# Altium footprint library Divers.PcbLib: 23 footprints (part 2 of 2)
Each footprint in its own frame and in the unit in brackets; x right, y up, seen from the top. Pads: shape width x height; smd on the part's side, far side on the other; paste and mask are expansions set on the pad; w line width, h text height; cw(c..) or ccw(c..) is an arc to the next point about the centre after c.
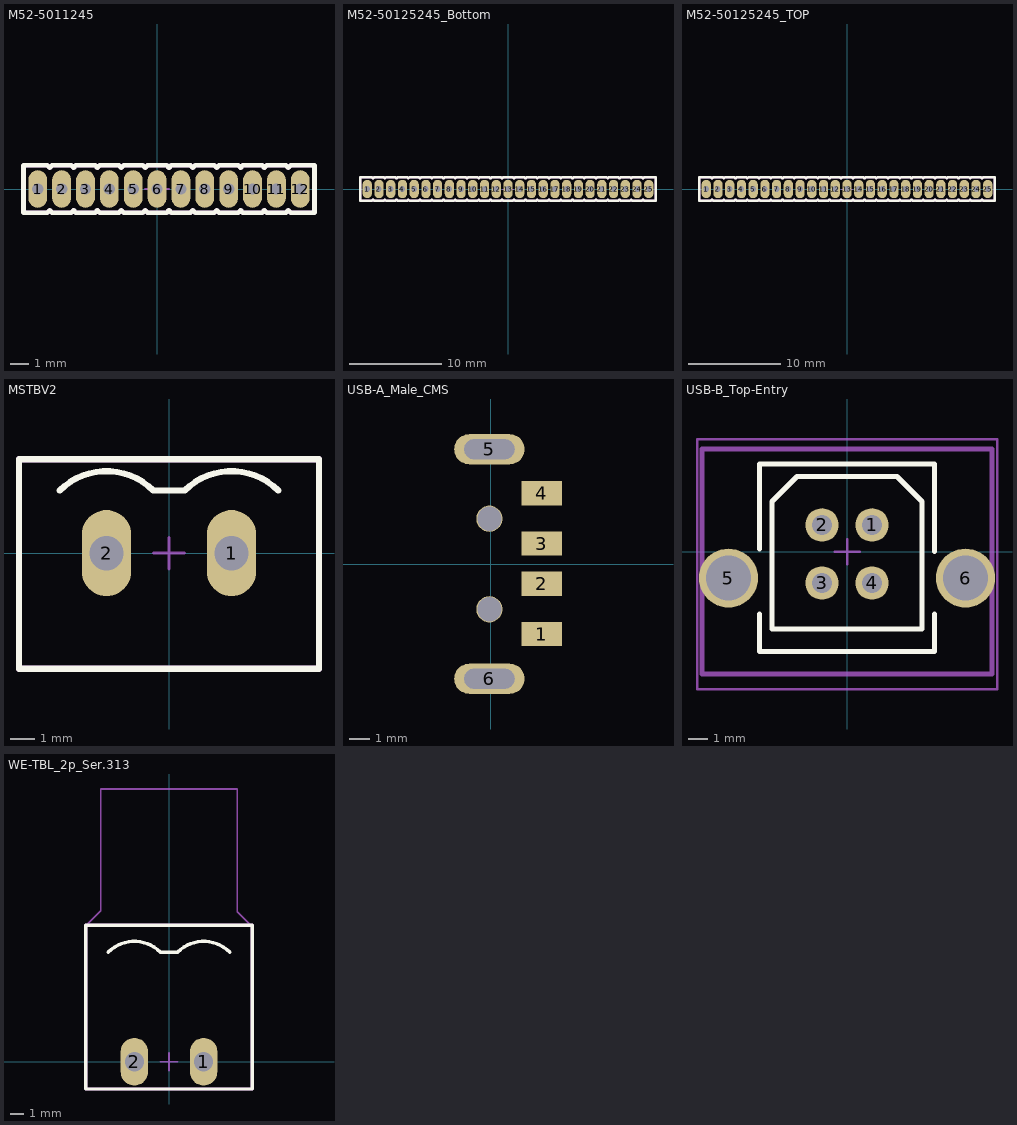
[diagram p1: the footprints below, top view; thin cyan lines are the x and y axes]

## M52-5011245 [mm]
pads (12):
  oval 1x2 hole 0.6: 1(-6.35,0) 2(-5.08,0) 3(-3.81,0) 4(-2.54,0) 5(-1.27,0) 6(0,0) 7(1.27,0) 8(2.54,0) 9(3.81,0) 10(5.08,0) 11(6.35,0) 12(7.62,0)
Top Overlay:
  lines w0.254: -7.112,-1.27 -5.842,-1.27 -5.715,-1.143 -5.588,-1.27 -4.572,-1.27 -4.445,-1.143 -4.318,-1.27 -3.302,-1.27 -3.175,-1.143 -3.048,-1.27 -2.032,-1.27 -1.905,-1.143 -1.778,-1.27 -0.762,-1.27 -0.635,-1.143 -0.508,-1.27 0.508,-1.27 0.635,-1.143 0.762,-1.27 1.778,-1.27 1.905,-1.143 2.032,-1.27 3.048,-1.27 3.175,-1.143 3.302,-1.27 4.318,-1.27 4.445,-1.143 4.572,-1.27 5.588,-1.27 5.715,-1.143 5.842,-1.27 6.858,-1.27 6.985,-1.143 7.112,-1.27 8.382,-1.27 8.382,1.27 7.112,1.27 6.985,1.143 6.858,1.27 5.842,1.27 5.715,1.143 5.588,1.27 4.572,1.27 4.445,1.143 4.318,1.27 3.302,1.27 3.175,1.143 3.048,1.27 2.032,1.27 1.905,1.143 1.778,1.27 0.762,1.27 0.635,1.143 0.508,1.27 -0.508,1.27 -0.635,1.143 -0.762,1.27 -1.778,1.27 -1.905,1.143 -2.032,1.27 -3.048,1.27 -3.175,1.143 -3.302,1.27 -4.318,1.27 -4.445,1.143 -4.572,1.27 -5.588,1.27 -5.715,1.143 -5.842,1.27 -7.112,1.27 -7.112,-1.27
Mechanical 13:
  lines w0.254: 7.112,1.27 8.255,1.27 ; 7.112,1.27 6.985,1.143 6.858,1.27 5.842,1.27 5.715,1.143 5.588,1.27 4.572,1.27 4.445,1.143 4.318,1.27 3.302,1.27 3.175,1.143 3.048,1.27 2.032,1.27 1.905,1.143 1.778,1.27 0.762,1.27 0.635,1.143 0.508,1.27 -0.508,1.27 -0.635,1.143 -0.762,1.27 -1.778,1.27 -1.905,1.143 -2.032,1.27 -3.048,1.27 -3.175,1.143 -3.302,1.27 -4.318,1.27 -4.445,1.143 -4.572,1.27 -5.588,1.27 -5.715,1.143 -5.842,1.27 -6.985,1.27 -7.112,1.143 -7.112,-1.143 -6.985,-1.27 -5.842,-1.27 -5.715,-1.143 -5.588,-1.27 -4.572,-1.27 -4.445,-1.143 -4.318,-1.27 -3.302,-1.27 -3.175,-1.143 -3.048,-1.27 -2.032,-1.27 -1.905,-1.143 -1.778,-1.27 -0.762,-1.27 -0.635,-1.143 -0.508,-1.27 0.508,-1.27 0.635,-1.143 0.762,-1.27 1.778,-1.27 1.905,-1.143 2.032,-1.27 3.048,-1.27 3.175,-1.143 3.302,-1.27 4.318,-1.27 4.445,-1.143 4.572,-1.27 5.588,-1.27 5.715,-1.143 5.842,-1.27 6.858,-1.27 6.985,-1.143 7.112,-1.27 8.255,-1.27 8.382,-1.143 8.382,1.143 8.255,1.27 ; 7.112,1.27 8.255,1.27
Mechanical 15:
  lines w0.127: -0.635,0 0.635,0 ; -7.112,-1.27 -7.112,1.27 8.382,1.27 8.382,-1.27 -7.112,-1.27
Mechanical 17:
  text ".Designator" at -7.112,1.524 h2
3D body: height 5, standoff 0, extent -7.112,-1.27 8.382,1.27

## M52-50125245_Bottom [mm]
pads (25):
  oval 1x2 hole 0.6: 1(-15.24,0) 2(-13.97,0) 3(-12.7,0) 4(-11.43,0) 5(-10.16,0) 6(-8.89,0) 7(-7.62,0) 8(-6.35,0) 9(-5.08,0) 10(-3.81,0) 11(-2.54,0) 12(-1.27,0) 13(0,0) 14(1.27,0) 15(2.54,0) 16(3.81,0) 17(5.08,0) 18(6.35,0) 19(7.62,0) 20(8.89,0) 21(10.16,0) 22(11.43,0) 23(12.7,0) 24(13.97,0) 25(15.24,0)
Top Overlay:
  lines w0.254: -16.002,-1.27 -16.002,1.27 -14.732,1.27 -14.605,1.143 -14.478,1.27 -13.462,1.27 -13.335,1.143 -13.208,1.27 -12.192,1.27 -12.065,1.143 -11.938,1.27 -10.922,1.27 -10.795,1.143 -10.668,1.27 -9.652,1.27 -9.525,1.143 -9.398,1.27 -8.382,1.27 -8.255,1.143 -8.128,1.27 -7.112,1.27 -6.985,1.143 -6.858,1.27 -5.842,1.27 -5.715,1.143 -5.588,1.27 -4.572,1.27 -4.445,1.143 -4.318,1.27 -3.302,1.27 -3.175,1.143 -3.048,1.27 -2.032,1.27 -1.905,1.143 -1.778,1.27 -0.762,1.27 -0.635,1.143 -0.508,1.27 0.508,1.27 0.635,1.143 0.762,1.27 1.778,1.27 1.905,1.143 2.032,1.27 3.048,1.27 3.175,1.143 3.302,1.27 4.318,1.27 4.445,1.143 4.572,1.27 5.588,1.27 5.715,1.143 5.842,1.27 6.858,1.27 6.985,1.143 7.112,1.27 8.128,1.27 8.255,1.143 8.382,1.27 9.398,1.27 9.525,1.143 9.652,1.27 10.668,1.27 10.795,1.143 10.922,1.27 11.938,1.27 12.065,1.143 12.192,1.27 13.208,1.27 13.335,1.143 13.462,1.27 14.478,1.27 14.605,1.143 14.732,1.27 16.002,1.27 16.002,-1.27 14.732,-1.27 14.605,-1.143 14.478,-1.27 13.462,-1.27 13.335,-1.143 13.208,-1.27 12.192,-1.27 12.065,-1.143 11.938,-1.27 10.922,-1.27 10.795,-1.143 10.668,-1.27 9.652,-1.27 9.525,-1.143 9.398,-1.27 8.382,-1.27 8.255,-1.143 8.128,-1.27 7.112,-1.27 6.985,-1.143 6.858,-1.27 5.842,-1.27 5.715,-1.143 5.588,-1.27 4.572,-1.27 4.445,-1.143 4.318,-1.27 3.302,-1.27 3.175,-1.143 3.048,-1.27 2.032,-1.27 1.905,-1.143 1.778,-1.27 0.762,-1.27 0.635,-1.143 0.508,-1.27 -0.508,-1.27 -0.635,-1.143 -0.762,-1.27 -1.778,-1.27 -1.905,-1.143 -2.032,-1.27 -3.048,-1.27 -3.175,-1.143 -3.302,-1.27 -4.318,-1.27 -4.445,-1.143 -4.572,-1.27 -5.588,-1.27 -5.715,-1.143 -5.842,-1.27 -6.858,-1.27 -6.985,-1.143 -7.112,-1.27 -8.128,-1.27 -8.255,-1.143 -8.382,-1.27 -9.398,-1.27 -9.525,-1.143 -9.652,-1.27 -10.668,-1.27 -10.795,-1.143 -10.922,-1.27 -11.938,-1.27 -12.065,-1.143 -12.192,-1.27 -13.208,-1.27 -13.335,-1.143 -13.462,-1.27 -14.478,-1.27 -14.605,-1.143 -14.732,-1.27 -16.002,-1.27
Mechanical 13:
  drawing of 152 lines, arcs and shapes, not listed
Mechanical 15:
  lines w0.127: -0.635,0 0.635,0 ; 0,-0.635 0,0.635 ; -16.002,-1.27 16.002,-1.27 16.002,1.27 -16.002,1.27 -16.002,-1.27
Mechanical 17:
  text ".Designator" at -6.858,0.889 h2
3D body "m52-5012545_asm.stp": height 2.5, standoff -9, extent -15.875,-1.27 15.875,1.27

## M52-50125245_TOP [mm]
pads (25):
  oval 1x2 hole 0.6: 1(-15.24,0) 2(-13.97,0) 3(-12.7,0) 4(-11.43,0) 5(-10.16,0) 6(-8.89,0) 7(-7.62,0) 8(-6.35,0) 9(-5.08,0) 10(-3.81,0) 11(-2.54,0) 12(-1.27,0) 13(0,0) 14(1.27,0) 15(2.54,0) 16(3.81,0) 17(5.08,0) 18(6.35,0) 19(7.62,0) 20(8.89,0) 21(10.16,0) 22(11.43,0) 23(12.7,0) 24(13.97,0) 25(15.24,0)
Top Overlay:
  lines w0.254: -16.002,-1.27 -16.002,1.27 -14.732,1.27 -14.605,1.143 -14.478,1.27 -13.462,1.27 -13.335,1.143 -13.208,1.27 -12.192,1.27 -12.065,1.143 -11.938,1.27 -10.922,1.27 -10.795,1.143 -10.668,1.27 -9.652,1.27 -9.525,1.143 -9.398,1.27 -8.382,1.27 -8.255,1.143 -8.128,1.27 -7.112,1.27 -6.985,1.143 -6.858,1.27 -5.842,1.27 -5.715,1.143 -5.588,1.27 -4.572,1.27 -4.445,1.143 -4.318,1.27 -3.302,1.27 -3.175,1.143 -3.048,1.27 -2.032,1.27 -1.905,1.143 -1.778,1.27 -0.762,1.27 -0.635,1.143 -0.508,1.27 0.508,1.27 0.635,1.143 0.762,1.27 1.778,1.27 1.905,1.143 2.032,1.27 3.048,1.27 3.175,1.143 3.302,1.27 4.318,1.27 4.445,1.143 4.572,1.27 5.588,1.27 5.715,1.143 5.842,1.27 6.858,1.27 6.985,1.143 7.112,1.27 8.128,1.27 8.255,1.143 8.382,1.27 9.398,1.27 9.525,1.143 9.652,1.27 10.668,1.27 10.795,1.143 10.922,1.27 11.938,1.27 12.065,1.143 12.192,1.27 13.208,1.27 13.335,1.143 13.462,1.27 14.478,1.27 14.605,1.143 14.732,1.27 16.002,1.27 16.002,-1.27 14.732,-1.27 14.605,-1.143 14.478,-1.27 13.462,-1.27 13.335,-1.143 13.208,-1.27 12.192,-1.27 12.065,-1.143 11.938,-1.27 10.922,-1.27 10.795,-1.143 10.668,-1.27 9.652,-1.27 9.525,-1.143 9.398,-1.27 8.382,-1.27 8.255,-1.143 8.128,-1.27 7.112,-1.27 6.985,-1.143 6.858,-1.27 5.842,-1.27 5.715,-1.143 5.588,-1.27 4.572,-1.27 4.445,-1.143 4.318,-1.27 3.302,-1.27 3.175,-1.143 3.048,-1.27 2.032,-1.27 1.905,-1.143 1.778,-1.27 0.762,-1.27 0.635,-1.143 0.508,-1.27 -0.508,-1.27 -0.635,-1.143 -0.762,-1.27 -1.778,-1.27 -1.905,-1.143 -2.032,-1.27 -3.048,-1.27 -3.175,-1.143 -3.302,-1.27 -4.318,-1.27 -4.445,-1.143 -4.572,-1.27 -5.588,-1.27 -5.715,-1.143 -5.842,-1.27 -6.858,-1.27 -6.985,-1.143 -7.112,-1.27 -8.128,-1.27 -8.255,-1.143 -8.382,-1.27 -9.398,-1.27 -9.525,-1.143 -9.652,-1.27 -10.668,-1.27 -10.795,-1.143 -10.922,-1.27 -11.938,-1.27 -12.065,-1.143 -12.192,-1.27 -13.208,-1.27 -13.335,-1.143 -13.462,-1.27 -14.478,-1.27 -14.605,-1.143 -14.732,-1.27 -16.002,-1.27
Mechanical 13:
  drawing of 152 lines, arcs and shapes, not listed
Mechanical 15:
  lines w0.127: -0.635,0 0.635,0 ; 0,-0.635 0,0.635 ; -16.002,-1.27 16.002,-1.27 16.002,1.27 -16.002,1.27 -16.002,-1.27
Mechanical 17:
  text ".Designator" at -5.842,0.762 h2
3D body "m52-5012545_asm.stp": height 9, standoff -2.5, extent -15.875,-1.27 15.875,1.27

## MSTBV2 [mm]
pads (2):
  oval 2x3.5 hole 1.4: 1(2.54,0) 2(-2.54,0)
Top Overlay:
  lines w0.254: -4.445,2.54 cw(c-2.54,0.635) -0.635,2.54 0.635,2.54 cw(c2.54,0.635) 4.445,2.54 ; -6.096,-4.699 -6.096,3.81 6.096,3.81 6.096,-4.699 -6.096,-4.699
Mechanical 13:
  lines w0.254: -6.096,-4.699 6.096,-4.699 6.096,3.81 -6.096,3.81 -6.096,-4.699
Mechanical 15:
  lines w0.127: -0.635,0 0.635,0 ; 0,-0.635 0,0.635 ; -6.096,-4.699 -6.096,3.81 6.096,3.81 6.096,-4.699 -6.096,-4.699
Mechanical 17:
  text ".Designator" at -5.207,2.54 h2
3D body "1776883.STEP": height 12.6, standoff -3.3, extent -5.357,-4.728 5.309,3.872

## USB-A_Male_CMS [mm]
pads (8):
  rect 2x1.2 smd: 1(2.54,-3.484) 2(2.54,-0.984) 3(2.54,1.016) 4(2.54,3.516)
  oval 3.5x1.5 hole 1 slot 2.5 at 0 deg: 5(-0.06,5.7) 6(-0.06,-5.7)
  round 1.3 hole 1.2: ""(-0.06,-2.25) ""(-0.06,2.25)
3D body "USB Series A Plug.step": height 4.5, standoff 0, extent -17.42,-6.031 0.91,5.969

## USB-B_Top-Entry [mm]
pads (6):
  round 1.7 hole 1: 1(1.27,1.35) 2(-1.27,1.35) 3(-1.27,-1.6) 4(1.27,-1.6)
  round 3 hole 2.3: 5(-6.02,-1.35) 6(6.02,-1.35)
Top Overlay:
  lines w0.254: -4.445,-3.175 -4.445,-5.08 4.445,-5.08 4.445,-3.175 ; -4.445,0.127 -4.445,4.445 4.445,4.445 4.445,0 ; -3.81,-3.937 -3.81,2.54 -2.54,3.81 2.54,3.81 3.81,2.54 3.81,-3.937 -3.81,-3.937
Mechanical 13:
  lines w0.254: -7.366,-6.223 -7.366,5.207 7.366,5.207 7.366,-6.223 -7.366,-6.223
Mechanical 15:
  lines w0.127: -0.635,0 0.635,0 ; 0,-0.635 0,0.635 ; -7.62,-6.985 -7.62,5.715 7.62,5.715 7.62,-6.985 -7.62,-6.985
Mechanical 17:
  text ".Designator" at -5.461,-6.096 h2
3D body "USB-B Top Entry.stp": height 16, standoff -4.05, extent -7.334,-6.158 7.366,5.142

## WE-TBL_2p_Ser.313 [mm] "ref 691313510002 with plug 691351500002"
height 15.1
pads (2):
  oval 2x3.5 hole 1.4: 1(2.54,0) 2(-2.54,0)
Top Overlay:
  lines w0.254: -4.445,8.04 cw(c-2.54,6.135) -0.635,8.04 0.635,8.04 cw(c2.54,6.135) 4.445,8.04 ; -6.096,-2 6.096,-2 6.096,10 -6.096,10 -6.096,-2
Mechanical 13:
  lines w0.254: -6.096,-2 -6.096,10 6.096,10 6.096,-2 -6.096,-2
Mechanical 15:
  lines w0.127: -0.635,0 0.635,0 ; 0,-0.635 0,0.635 ; -6.096,-2 6.096,-2 6.096,3.5 6.096,9.904 5,11 5,20 -5,20 -5,11.08 -6.096,9.984 -6.096,3.5 -6.096,-2
Mechanical 17:
  text ".Designator" at -5.207,8.04 h2
3D body "Wurth 691313510002.stp": height 8.7, standoff -3.3, extent -6.08,-2 6.08,10
3D body "Wurth 691351500002.stp": height 14.9, standoff -0.2, extent -5.08,1.75 5.08,19.95